# Altium schematic symbol library PCA9632DP2,118.SchLib: 1 symbol
Pins are listed as number, name and electrical type; pins without a type are passive.

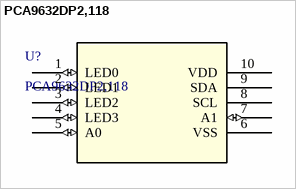
[diagram p0: symbol PCA9632DP2,118]

## PCA9632DP2,118
designator U?
No Description Available; Manufacturer_Name: NXP; Copyright: Copyright (C) 2026 Ultra Librarian. All rights reserved.; Manufacturer_Part_Number: PCA9632DP2,118; RefDes: RefDes; Type: Type
footprint TSSOP10_3P1X3P1_NXP
pins: 1 LED0 (io), 2 LED1 (io), 3 LED2 (io), 4 LED3 (io), 5 A0 (io), 6 VSS (power), 7 A1 (io), 8 SCL, 9 SDA, 10 VDD (power)